# Altium integrated library National Semiconductor LDO.IntLib: 2675 symbols (part 55 of 65)
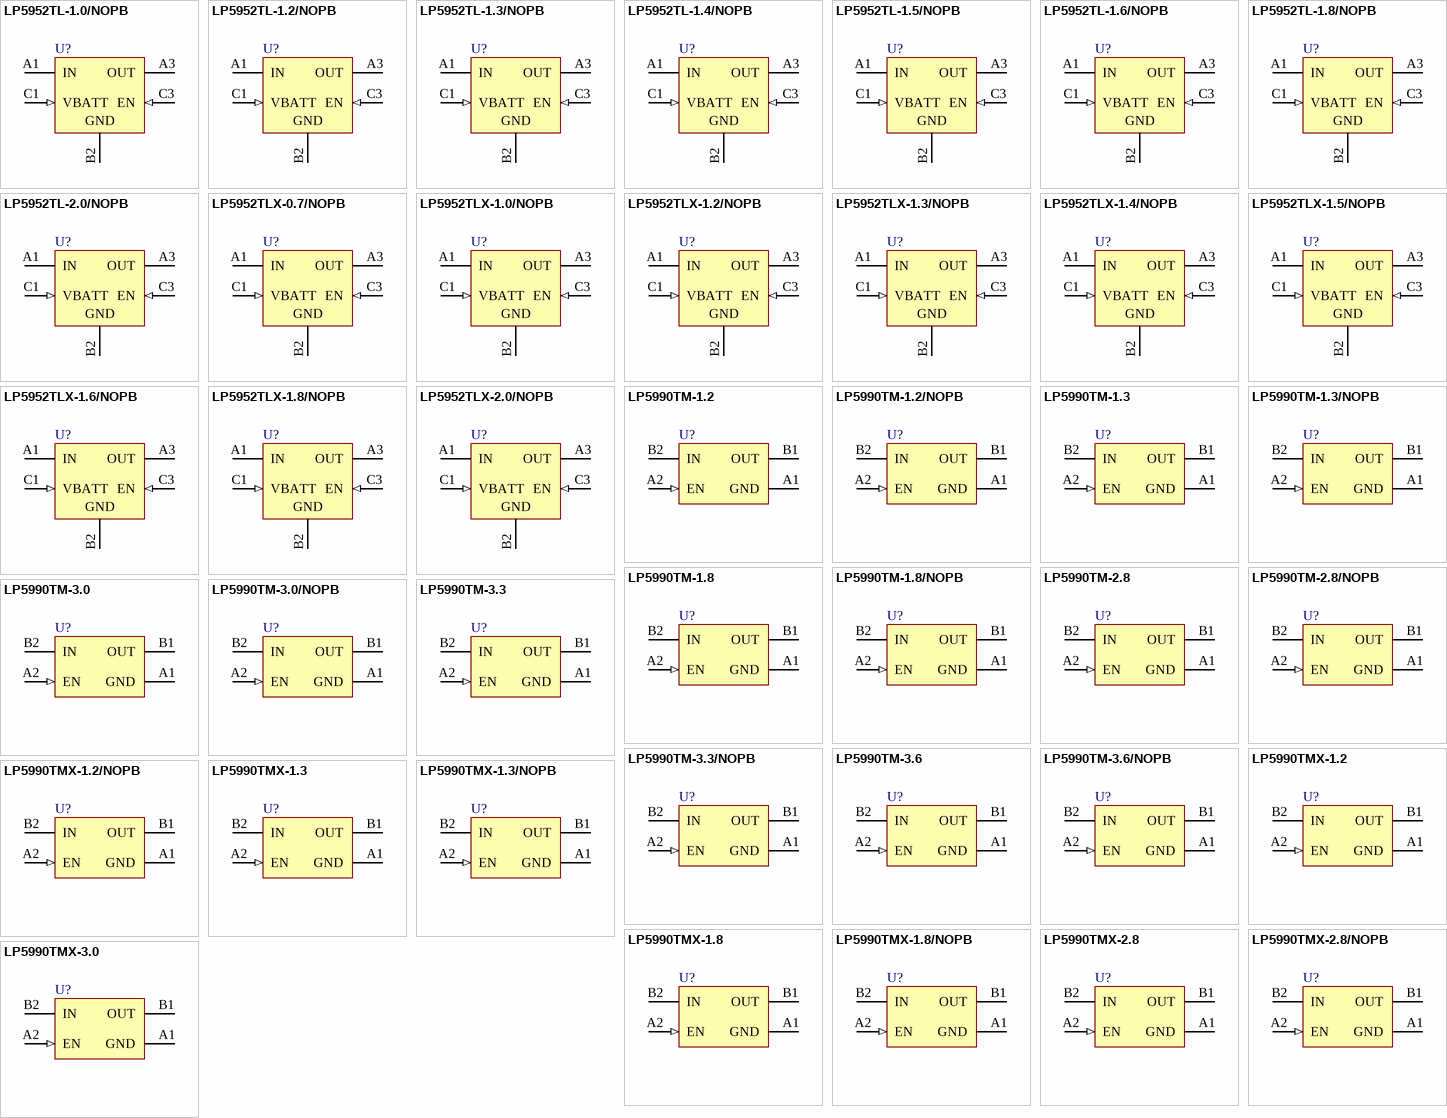
[diagram p121: symbols LP5952TL-1.0/NOPB to LP5990TMX-3.0]

## LP5990TM-2.8
designator U?
Micropower 200mA Low Dropout Voltage Regulator, 4-pin Micro SMD; PartNumber: LP5990TM-2.8; Manufacturer: National Semiconductor; PackageTopMarking: X*I; PowerWise: N; CompType: LDO IC; High-Reliability: Y; DatasheetVersion: Dec-2007; PackageVersion: revA, 2007; PackageReference: TMD04CEA; PackageDescription: Thin Micro SMD, 4 Bump, 0.4mm Pitch; RoHS: Y; PinCount: 4; ComponentLink1Description: Manufacturer URL; ComponentLink1URL: http://www.national.com/; ComponentLink2Description: LP5990 Datasheet; ComponentLink2URL: http://www.national.com/ds/LP/LP5990.pdf; ComponentLink3Description: LP5990 Web Page; ComponentLink3URL: http://www.national.com/mpf/LP/LP5990.html; ComponentLink4Description: TMD04CEA Package Page; ComponentLink4URL: http://www.national.com/packaging/folders/tmd04cea.html
footprint TMD04CEA (Micro SMD, 4-Leads, Body 0.92x0.87mm, Pitch 0.4mm, NSC Recommended)
pins: A1 GND (power), A2 EN (in), B1 OUT (power), B2 IN (power)

## LP5990TM-2.8/NOPB
designator U?
Micropower 200mA Low Dropout Voltage Regulator, 4-pin Micro SMD, Pb-Free; PartNumber: LP5990TM-2.8/NOPB; Manufacturer: National Semiconductor; PackageTopMarking: X*I; PowerWise: N; CompType: LDO IC; High-Reliability: Y; DatasheetVersion: Dec-2007; PackageVersion: revA, 2007; PackageReference: TMD04CEA; PackageDescription: Thin Micro SMD, 4 Bump, 0.4mm Pitch; RoHS: Y; PinCount: 4; ComponentLink1Description: Manufacturer URL; ComponentLink1URL: http://www.national.com/; ComponentLink2Description: LP5990 Datasheet; ComponentLink2URL: http://www.national.com/ds/LP/LP5990.pdf; ComponentLink3Description: LP5990 Web Page; ComponentLink3URL: http://www.national.com/pf/LP/LP5990.html; ComponentLink4Description: TMD04CEA Package Page; ComponentLink4URL: http://www.national.com/packaging/folders/tmd04cea.html
footprint TMD04CEA (Micro SMD, 4-Leads, Body 0.92x0.87mm, Pitch 0.4mm, NSC Recommended)
pins: A1 GND (power), A2 EN (in), B1 OUT (power), B2 IN (power)

## LP5990TM-3.0
designator U?
Micropower 200mA Low Dropout Voltage Regulator, 4-pin Micro SMD; PartNumber: LP5990TM-3.0; Manufacturer: National Semiconductor; PackageTopMarking: X*I; PowerWise: N; CompType: LDO IC; High-Reliability: Y; DatasheetVersion: Dec-2007; PackageVersion: revA, 2007; PackageReference: TMD04CEA; PackageDescription: Thin Micro SMD, 4 Bump, 0.4mm Pitch; RoHS: Y; PinCount: 4; ComponentLink1Description: Manufacturer URL; ComponentLink1URL: http://www.national.com/; ComponentLink2Description: LP5990 Datasheet; ComponentLink2URL: http://www.national.com/ds/LP/LP5990.pdf; ComponentLink3Description: LP5990 Web Page; ComponentLink3URL: http://www.national.com/mpf/LP/LP5990.html; ComponentLink4Description: TMD04CEA Package Page; ComponentLink4URL: http://www.national.com/packaging/folders/tmd04cea.html
footprint TMD04CEA (Micro SMD, 4-Leads, Body 0.92x0.87mm, Pitch 0.4mm, NSC Recommended)
pins: A1 GND (power), A2 EN (in), B1 OUT (power), B2 IN (power)

## LP5990TM-3.0/NOPB
designator U?
Micropower 200mA Low Dropout Voltage Regulator, 4-pin Micro SMD, Pb-Free; PartNumber: LP5990TM-3.0/NOPB; Manufacturer: National Semiconductor; PackageTopMarking: X*I; PowerWise: N; CompType: LDO IC; High-Reliability: Y; DatasheetVersion: Dec-2007; PackageVersion: revA, 2007; PackageReference: TMD04CEA; PackageDescription: Thin Micro SMD, 4 Bump, 0.4mm Pitch; RoHS: Y; PinCount: 4; ComponentLink1Description: Manufacturer URL; ComponentLink1URL: http://www.national.com/; ComponentLink2Description: LP5990 Datasheet; ComponentLink2URL: http://www.national.com/ds/LP/LP5990.pdf; ComponentLink3Description: LP5990 Web Page; ComponentLink3URL: http://www.national.com/pf/LP/LP5990.html; ComponentLink4Description: TMD04CEA Package Page; ComponentLink4URL: http://www.national.com/packaging/folders/tmd04cea.html
footprint TMD04CEA (Micro SMD, 4-Leads, Body 0.92x0.87mm, Pitch 0.4mm, NSC Recommended)
pins: A1 GND (power), A2 EN (in), B1 OUT (power), B2 IN (power)

## LP5990TM-3.3
designator U?
Micropower 200mA Low Dropout Voltage Regulator, 4-pin Micro SMD; PartNumber: LP5990TM-3.3; Manufacturer: National Semiconductor; PackageTopMarking: X*I; PowerWise: N; CompType: LDO IC; High-Reliability: Y; DatasheetVersion: Dec-2007; PackageVersion: revA, 2007; PackageReference: TMD04CEA; PackageDescription: Thin Micro SMD, 4 Bump, 0.4mm Pitch; RoHS: Y; PinCount: 4; ComponentLink1Description: Manufacturer URL; ComponentLink1URL: http://www.national.com/; ComponentLink2Description: LP5990 Datasheet; ComponentLink2URL: http://www.national.com/ds/LP/LP5990.pdf; ComponentLink3Description: LP5990 Web Page; ComponentLink3URL: http://www.national.com/mpf/LP/LP5990.html; ComponentLink4Description: TMD04CEA Package Page; ComponentLink4URL: http://www.national.com/packaging/folders/tmd04cea.html
footprint TMD04CEA (Micro SMD, 4-Leads, Body 0.92x0.87mm, Pitch 0.4mm, NSC Recommended)
pins: A1 GND (power), A2 EN (in), B1 OUT (power), B2 IN (power)

## LP5990TM-3.3/NOPB
designator U?
Micropower 200mA Low Dropout Voltage Regulator, 4-pin Micro SMD, Pb-Free; PartNumber: LP5990TM-3.3/NOPB; Manufacturer: National Semiconductor; PackageTopMarking: X*I; PowerWise: N; CompType: LDO IC; High-Reliability: Y; DatasheetVersion: Dec-2007; PackageVersion: revA, 2007; PackageReference: TMD04CEA; PackageDescription: Thin Micro SMD, 4 Bump, 0.4mm Pitch; RoHS: Y; PinCount: 4; ComponentLink1Description: Manufacturer URL; ComponentLink1URL: http://www.national.com/; ComponentLink2Description: LP5990 Datasheet; ComponentLink2URL: http://www.national.com/ds/LP/LP5990.pdf; ComponentLink3Description: LP5990 Web Page; ComponentLink3URL: http://www.national.com/pf/LP/LP5990.html; ComponentLink4Description: TMD04CEA Package Page; ComponentLink4URL: http://www.national.com/packaging/folders/tmd04cea.html
footprint TMD04CEA (Micro SMD, 4-Leads, Body 0.92x0.87mm, Pitch 0.4mm, NSC Recommended)
pins: A1 GND (power), A2 EN (in), B1 OUT (power), B2 IN (power)

## LP5990TM-3.6
designator U?
Micropower 200mA Low Dropout Voltage Regulator, 4-pin Micro SMD; PartNumber: LP5990TM-3.6; Manufacturer: National Semiconductor; PackageTopMarking: X*I; PowerWise: N; CompType: LDO IC; High-Reliability: Y; DatasheetVersion: Dec-2007; PackageVersion: revA, 2007; PackageReference: TMD04CEA; PackageDescription: Thin Micro SMD, 4 Bump, 0.4mm Pitch; RoHS: Y; PinCount: 4; ComponentLink1Description: Manufacturer URL; ComponentLink1URL: http://www.national.com/; ComponentLink2Description: LP5990 Datasheet; ComponentLink2URL: http://www.national.com/ds/LP/LP5990.pdf; ComponentLink3Description: LP5990 Web Page; ComponentLink3URL: http://www.national.com/mpf/LP/LP5990.html; ComponentLink4Description: TMD04CEA Package Page; ComponentLink4URL: http://www.national.com/packaging/folders/tmd04cea.html
footprint TMD04CEA (Micro SMD, 4-Leads, Body 0.92x0.87mm, Pitch 0.4mm, NSC Recommended)
pins: A1 GND (power), A2 EN (in), B1 OUT (power), B2 IN (power)

## LP5990TM-3.6/NOPB
designator U?
Micropower 200mA Low Dropout Voltage Regulator, 4-pin Micro SMD, Pb-Free; PartNumber: LP5990TM-3.6/NOPB; Manufacturer: National Semiconductor; PackageTopMarking: X*I; PowerWise: N; CompType: LDO IC; High-Reliability: Y; DatasheetVersion: Dec-2007; PackageVersion: revA, 2007; PackageReference: TMD04CEA; PackageDescription: Thin Micro SMD, 4 Bump, 0.4mm Pitch; RoHS: Y; PinCount: 4; ComponentLink1Description: Manufacturer URL; ComponentLink1URL: http://www.national.com/; ComponentLink2Description: LP5990 Datasheet; ComponentLink2URL: http://www.national.com/ds/LP/LP5990.pdf; ComponentLink3Description: LP5990 Web Page; ComponentLink3URL: http://www.national.com/pf/LP/LP5990.html; ComponentLink4Description: TMD04CEA Package Page; ComponentLink4URL: http://www.national.com/packaging/folders/tmd04cea.html
footprint TMD04CEA (Micro SMD, 4-Leads, Body 0.92x0.87mm, Pitch 0.4mm, NSC Recommended)
pins: A1 GND (power), A2 EN (in), B1 OUT (power), B2 IN (power)

## LP5990TMX-1.2
designator U?
Micropower 200mA Low Dropout Voltage Regulator, 4-pin Micro SMD; PartNumber: LP5990TMX-1.2; Manufacturer: National Semiconductor; PackageTopMarking: X*I; PowerWise: N; CompType: LDO IC; High-Reliability: Y; DatasheetVersion: Dec-2007; PackageVersion: revA, 2007; PackageReference: TMD04CEA; PackageDescription: Thin Micro SMD, 4 Bump, 0.4mm Pitch; RoHS: Y; PinCount: 4; ComponentLink1Description: Manufacturer URL; ComponentLink1URL: http://www.national.com/; ComponentLink2Description: LP5990 Datasheet; ComponentLink2URL: http://www.national.com/ds/LP/LP5990.pdf; ComponentLink3Description: LP5990 Web Page; ComponentLink3URL: http://www.national.com/mpf/LP/LP5990.html; ComponentLink4Description: TMD04CEA Package Page; ComponentLink4URL: http://www.national.com/packaging/folders/tmd04cea.html
footprint TMD04CEA (Micro SMD, 4-Leads, Body 0.92x0.87mm, Pitch 0.4mm, NSC Recommended)
pins: A1 GND (power), A2 EN (in), B1 OUT (power), B2 IN (power)

## LP5990TMX-1.2/NOPB
designator U?
Micropower 200mA Low Dropout Voltage Regulator, 4-pin Micro SMD, Pb-Free; PartNumber: LP5990TMX-1.2/NOPB; Manufacturer: National Semiconductor; PackageTopMarking: X*I; PowerWise: N; CompType: LDO IC; High-Reliability: Y; DatasheetVersion: Dec-2007; PackageVersion: revA, 2007; PackageReference: TMD04CEA; PackageDescription: Thin Micro SMD, 4 Bump, 0.4mm Pitch; RoHS: Y; PinCount: 4; ComponentLink1Description: Manufacturer URL; ComponentLink1URL: http://www.national.com/; ComponentLink2Description: LP5990 Datasheet; ComponentLink2URL: http://www.national.com/ds/LP/LP5990.pdf; ComponentLink3Description: LP5990 Web Page; ComponentLink3URL: http://www.national.com/pf/LP/LP5990.html; ComponentLink4Description: TMD04CEA Package Page; ComponentLink4URL: http://www.national.com/packaging/folders/tmd04cea.html
footprint TMD04CEA (Micro SMD, 4-Leads, Body 0.92x0.87mm, Pitch 0.4mm, NSC Recommended)
pins: A1 GND (power), A2 EN (in), B1 OUT (power), B2 IN (power)

## LP5990TMX-1.3
designator U?
Micropower 200mA Low Dropout Voltage Regulator, 4-pin Micro SMD; PartNumber: LP5990TMX-1.3; Manufacturer: National Semiconductor; PackageTopMarking: X*I; PowerWise: N; CompType: LDO IC; High-Reliability: Y; DatasheetVersion: Dec-2007; PackageVersion: revA, 2007; PackageReference: TMD04CEA; PackageDescription: Thin Micro SMD, 4 Bump, 0.4mm Pitch; RoHS: Y; PinCount: 4; ComponentLink1Description: Manufacturer URL; ComponentLink1URL: http://www.national.com/; ComponentLink2Description: LP5990 Datasheet; ComponentLink2URL: http://www.national.com/ds/LP/LP5990.pdf; ComponentLink3Description: LP5990 Web Page; ComponentLink3URL: http://www.national.com/mpf/LP/LP5990.html; ComponentLink4Description: TMD04CEA Package Page; ComponentLink4URL: http://www.national.com/packaging/folders/tmd04cea.html
footprint TMD04CEA (Micro SMD, 4-Leads, Body 0.92x0.87mm, Pitch 0.4mm, NSC Recommended)
pins: A1 GND (power), A2 EN (in), B1 OUT (power), B2 IN (power)

## LP5990TMX-1.3/NOPB
designator U?
Micropower 200mA Low Dropout Voltage Regulator, 4-pin Micro SMD, Pb-Free; PartNumber: LP5990TMX-1.3/NOPB; Manufacturer: National Semiconductor; PackageTopMarking: X*I; PowerWise: N; CompType: LDO IC; High-Reliability: Y; DatasheetVersion: Dec-2007; PackageVersion: revA, 2007; PackageReference: TMD04CEA; PackageDescription: Thin Micro SMD, 4 Bump, 0.4mm Pitch; RoHS: Y; PinCount: 4; ComponentLink1Description: Manufacturer URL; ComponentLink1URL: http://www.national.com/; ComponentLink2Description: LP5990 Datasheet; ComponentLink2URL: http://www.national.com/ds/LP/LP5990.pdf; ComponentLink3Description: LP5990 Web Page; ComponentLink3URL: http://www.national.com/pf/LP/LP5990.html; ComponentLink4Description: TMD04CEA Package Page; ComponentLink4URL: http://www.national.com/packaging/folders/tmd04cea.html
footprint TMD04CEA (Micro SMD, 4-Leads, Body 0.92x0.87mm, Pitch 0.4mm, NSC Recommended)
pins: A1 GND (power), A2 EN (in), B1 OUT (power), B2 IN (power)

## LP5990TMX-1.8
designator U?
Micropower 200mA Low Dropout Voltage Regulator, 4-pin Micro SMD; PartNumber: LP5990TMX-1.8; Manufacturer: National Semiconductor; PackageTopMarking: X*I; PowerWise: N; CompType: LDO IC; High-Reliability: Y; DatasheetVersion: Dec-2007; PackageVersion: revA, 2007; PackageReference: TMD04CEA; PackageDescription: Thin Micro SMD, 4 Bump, 0.4mm Pitch; RoHS: Y; PinCount: 4; ComponentLink1Description: Manufacturer URL; ComponentLink1URL: http://www.national.com/; ComponentLink2Description: LP5990 Datasheet; ComponentLink2URL: http://www.national.com/ds/LP/LP5990.pdf; ComponentLink3Description: LP5990 Web Page; ComponentLink3URL: http://www.national.com/mpf/LP/LP5990.html; ComponentLink4Description: TMD04CEA Package Page; ComponentLink4URL: http://www.national.com/packaging/folders/tmd04cea.html
footprint TMD04CEA (Micro SMD, 4-Leads, Body 0.92x0.87mm, Pitch 0.4mm, NSC Recommended)
pins: A1 GND (power), A2 EN (in), B1 OUT (power), B2 IN (power)

## LP5990TMX-1.8/NOPB
designator U?
Micropower 200mA Low Dropout Voltage Regulator, 4-pin Micro SMD, Pb-Free; PartNumber: LP5990TMX-1.8/NOPB; Manufacturer: National Semiconductor; PackageTopMarking: X*I; PowerWise: N; CompType: LDO IC; High-Reliability: Y; DatasheetVersion: Dec-2007; PackageVersion: revA, 2007; PackageReference: TMD04CEA; PackageDescription: Thin Micro SMD, 4 Bump, 0.4mm Pitch; RoHS: Y; PinCount: 4; ComponentLink1Description: Manufacturer URL; ComponentLink1URL: http://www.national.com/; ComponentLink2Description: LP5990 Datasheet; ComponentLink2URL: http://www.national.com/ds/LP/LP5990.pdf; ComponentLink3Description: LP5990 Web Page; ComponentLink3URL: http://www.national.com/pf/LP/LP5990.html; ComponentLink4Description: TMD04CEA Package Page; ComponentLink4URL: http://www.national.com/packaging/folders/tmd04cea.html
footprint TMD04CEA (Micro SMD, 4-Leads, Body 0.92x0.87mm, Pitch 0.4mm, NSC Recommended)
pins: A1 GND (power), A2 EN (in), B1 OUT (power), B2 IN (power)

## LP5990TMX-2.8
designator U?
Micropower 200mA Low Dropout Voltage Regulator, 4-pin Micro SMD; PartNumber: LP5990TMX-2.8; Manufacturer: National Semiconductor; PackageTopMarking: X*I; PowerWise: N; CompType: LDO IC; High-Reliability: Y; DatasheetVersion: Dec-2007; PackageVersion: revA, 2007; PackageReference: TMD04CEA; PackageDescription: Thin Micro SMD, 4 Bump, 0.4mm Pitch; RoHS: Y; PinCount: 4; ComponentLink1Description: Manufacturer URL; ComponentLink1URL: http://www.national.com/; ComponentLink2Description: LP5990 Datasheet; ComponentLink2URL: http://www.national.com/ds/LP/LP5990.pdf; ComponentLink3Description: LP5990 Web Page; ComponentLink3URL: http://www.national.com/mpf/LP/LP5990.html; ComponentLink4Description: TMD04CEA Package Page; ComponentLink4URL: http://www.national.com/packaging/folders/tmd04cea.html
footprint TMD04CEA (Micro SMD, 4-Leads, Body 0.92x0.87mm, Pitch 0.4mm, NSC Recommended)
pins: A1 GND (power), A2 EN (in), B1 OUT (power), B2 IN (power)

## LP5990TMX-2.8/NOPB
designator U?
Micropower 200mA Low Dropout Voltage Regulator, 4-pin Micro SMD, Pb-Free; PartNumber: LP5990TMX-2.8/NOPB; Manufacturer: National Semiconductor; PackageTopMarking: X*I; PowerWise: N; CompType: LDO IC; High-Reliability: Y; DatasheetVersion: Dec-2007; PackageVersion: revA, 2007; PackageReference: TMD04CEA; PackageDescription: Thin Micro SMD, 4 Bump, 0.4mm Pitch; RoHS: Y; PinCount: 4; ComponentLink1Description: Manufacturer URL; ComponentLink1URL: http://www.national.com/; ComponentLink2Description: LP5990 Datasheet; ComponentLink2URL: http://www.national.com/ds/LP/LP5990.pdf; ComponentLink3Description: LP5990 Web Page; ComponentLink3URL: http://www.national.com/pf/LP/LP5990.html; ComponentLink4Description: TMD04CEA Package Page; ComponentLink4URL: http://www.national.com/packaging/folders/tmd04cea.html
footprint TMD04CEA (Micro SMD, 4-Leads, Body 0.92x0.87mm, Pitch 0.4mm, NSC Recommended)
pins: A1 GND (power), A2 EN (in), B1 OUT (power), B2 IN (power)

## LP5990TMX-3.0
designator U?
Micropower 200mA Low Dropout Voltage Regulator, 4-pin Micro SMD; PartNumber: LP5990TMX-3.0; Manufacturer: National Semiconductor; PackageTopMarking: X*I; PowerWise: N; CompType: LDO IC; High-Reliability: Y; DatasheetVersion: Dec-2007; PackageVersion: revA, 2007; PackageReference: TMD04CEA; PackageDescription: Thin Micro SMD, 4 Bump, 0.4mm Pitch; RoHS: Y; PinCount: 4; ComponentLink1Description: Manufacturer URL; ComponentLink1URL: http://www.national.com/; ComponentLink2Description: LP5990 Datasheet; ComponentLink2URL: http://www.national.com/ds/LP/LP5990.pdf; ComponentLink3Description: LP5990 Web Page; ComponentLink3URL: http://www.national.com/mpf/LP/LP5990.html; ComponentLink4Description: TMD04CEA Package Page; ComponentLink4URL: http://www.national.com/packaging/folders/tmd04cea.html
footprint TMD04CEA (Micro SMD, 4-Leads, Body 0.92x0.87mm, Pitch 0.4mm, NSC Recommended)
pins: A1 GND (power), A2 EN (in), B1 OUT (power), B2 IN (power)

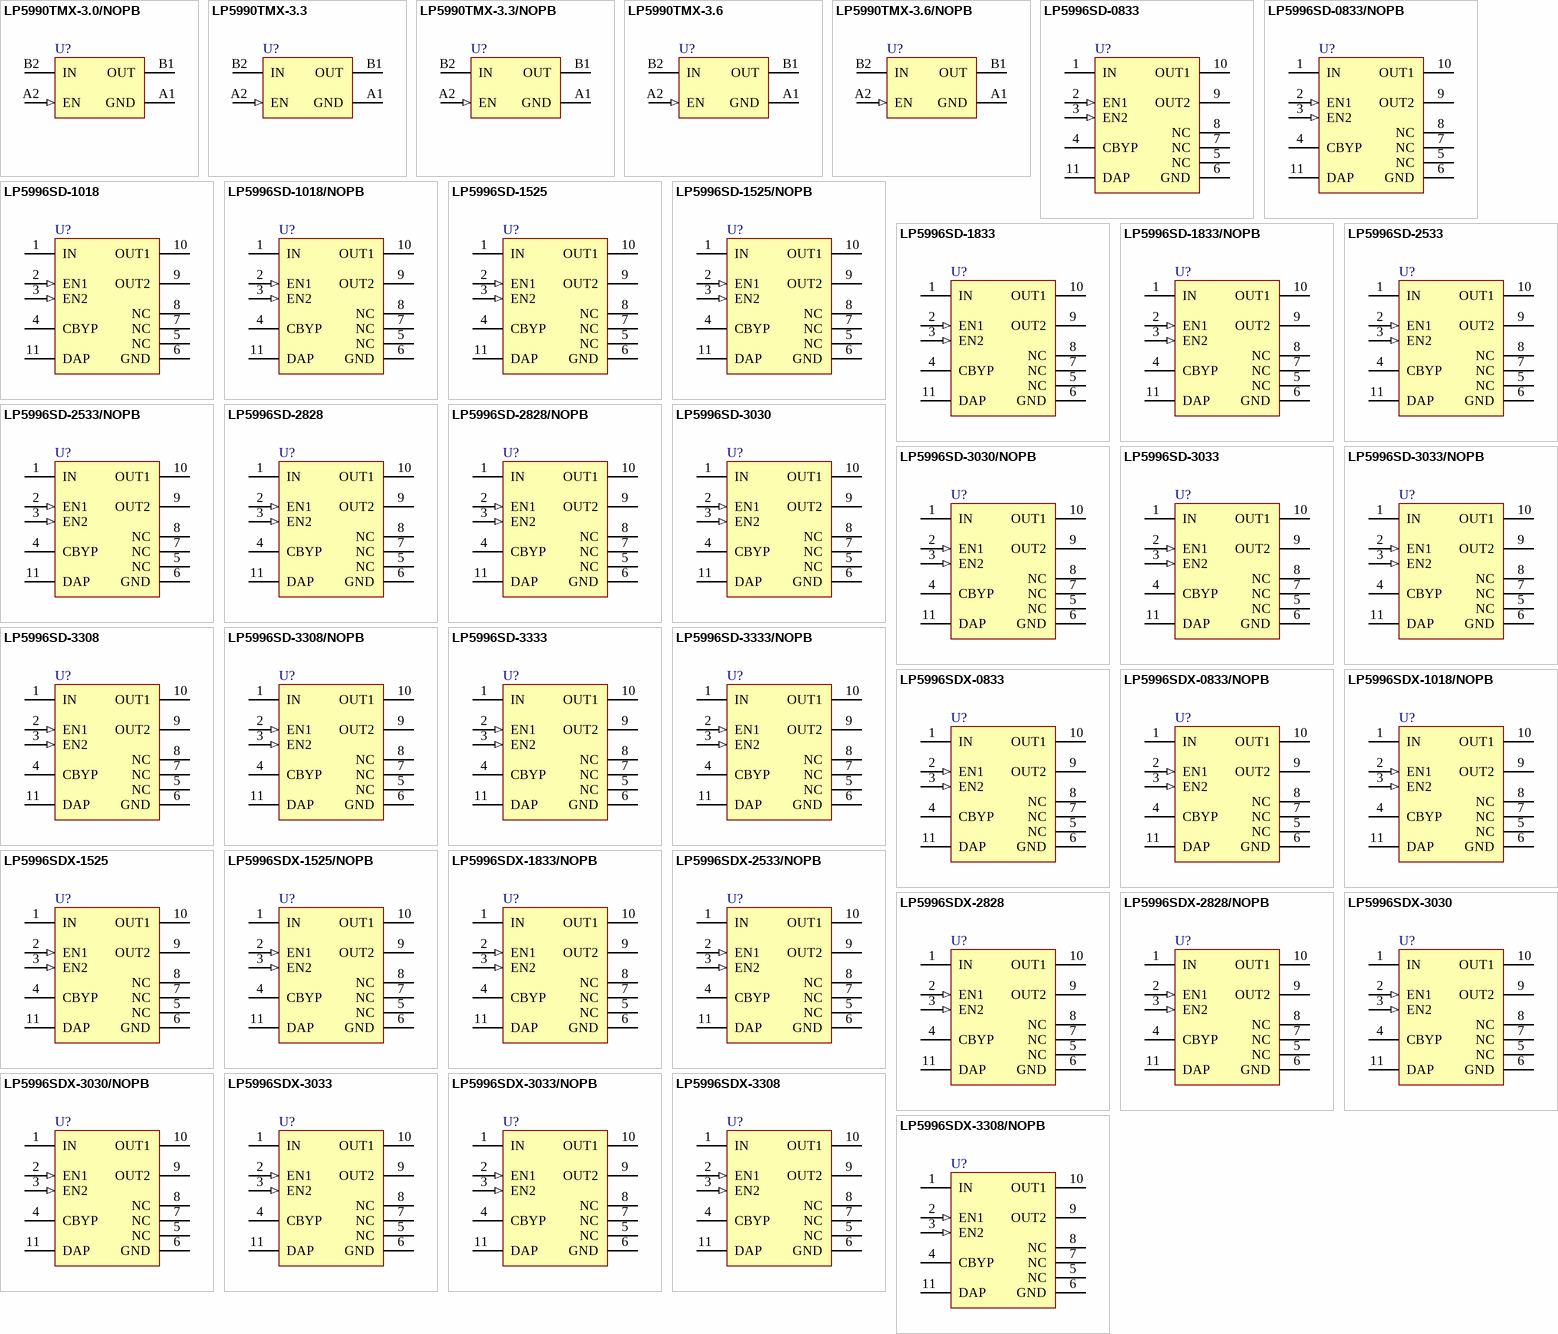
[diagram p57: symbols LP5990TMX-3.0/NOPB to LP5996SDX-3308/NOPB]

## LP5990TMX-3.0/NOPB
designator U?
Micropower 200mA Low Dropout Voltage Regulator, 4-pin Micro SMD, Pb-Free; PartNumber: LP5990TMX-3.0/NOPB; Manufacturer: National Semiconductor; PackageTopMarking: X*I; PowerWise: N; CompType: LDO IC; High-Reliability: Y; DatasheetVersion: Dec-2007; PackageVersion: revA, 2007; PackageReference: TMD04CEA; PackageDescription: Thin Micro SMD, 4 Bump, 0.4mm Pitch; RoHS: Y; PinCount: 4; ComponentLink1Description: Manufacturer URL; ComponentLink1URL: http://www.national.com/; ComponentLink2Description: LP5990 Datasheet; ComponentLink2URL: http://www.national.com/ds/LP/LP5990.pdf; ComponentLink3Description: LP5990 Web Page; ComponentLink3URL: http://www.national.com/pf/LP/LP5990.html; ComponentLink4Description: TMD04CEA Package Page; ComponentLink4URL: http://www.national.com/packaging/folders/tmd04cea.html
footprint TMD04CEA (Micro SMD, 4-Leads, Body 0.92x0.87mm, Pitch 0.4mm, NSC Recommended)
pins: A1 GND (power), A2 EN (in), B1 OUT (power), B2 IN (power)

## LP5990TMX-3.3
designator U?
Micropower 200mA Low Dropout Voltage Regulator, 4-pin Micro SMD; PartNumber: LP5990TMX-3.3; Manufacturer: National Semiconductor; PackageTopMarking: X*I; PowerWise: N; CompType: LDO IC; High-Reliability: Y; DatasheetVersion: Dec-2007; PackageVersion: revA, 2007; PackageReference: TMD04CEA; PackageDescription: Thin Micro SMD, 4 Bump, 0.4mm Pitch; RoHS: Y; PinCount: 4; ComponentLink1Description: Manufacturer URL; ComponentLink1URL: http://www.national.com/; ComponentLink2Description: LP5990 Datasheet; ComponentLink2URL: http://www.national.com/ds/LP/LP5990.pdf; ComponentLink3Description: LP5990 Web Page; ComponentLink3URL: http://www.national.com/mpf/LP/LP5990.html; ComponentLink4Description: TMD04CEA Package Page; ComponentLink4URL: http://www.national.com/packaging/folders/tmd04cea.html
footprint TMD04CEA (Micro SMD, 4-Leads, Body 0.92x0.87mm, Pitch 0.4mm, NSC Recommended)
pins: A1 GND (power), A2 EN (in), B1 OUT (power), B2 IN (power)

## LP5990TMX-3.3/NOPB
designator U?
Micropower 200mA Low Dropout Voltage Regulator, 4-pin Micro SMD, Pb-Free; PartNumber: LP5990TMX-3.3/NOPB; Manufacturer: National Semiconductor; PackageTopMarking: X*I; PowerWise: N; CompType: LDO IC; High-Reliability: Y; DatasheetVersion: Dec-2007; PackageVersion: revA, 2007; PackageReference: TMD04CEA; PackageDescription: Thin Micro SMD, 4 Bump, 0.4mm Pitch; RoHS: Y; PinCount: 4; ComponentLink1Description: Manufacturer URL; ComponentLink1URL: http://www.national.com/; ComponentLink2Description: LP5990 Datasheet; ComponentLink2URL: http://www.national.com/ds/LP/LP5990.pdf; ComponentLink3Description: LP5990 Web Page; ComponentLink3URL: http://www.national.com/pf/LP/LP5990.html; ComponentLink4Description: TMD04CEA Package Page; ComponentLink4URL: http://www.national.com/packaging/folders/tmd04cea.html
footprint TMD04CEA (Micro SMD, 4-Leads, Body 0.92x0.87mm, Pitch 0.4mm, NSC Recommended)
pins: A1 GND (power), A2 EN (in), B1 OUT (power), B2 IN (power)

## LP5990TMX-3.6
designator U?
Micropower 200mA Low Dropout Voltage Regulator, 4-pin Micro SMD; PartNumber: LP5990TMX-3.6; Manufacturer: National Semiconductor; PackageTopMarking: X*I; PowerWise: N; CompType: LDO IC; High-Reliability: Y; DatasheetVersion: Dec-2007; PackageVersion: revA, 2007; PackageReference: TMD04CEA; PackageDescription: Thin Micro SMD, 4 Bump, 0.4mm Pitch; RoHS: Y; PinCount: 4; ComponentLink1Description: Manufacturer URL; ComponentLink1URL: http://www.national.com/; ComponentLink2Description: LP5990 Datasheet; ComponentLink2URL: http://www.national.com/ds/LP/LP5990.pdf; ComponentLink3Description: LP5990 Web Page; ComponentLink3URL: http://www.national.com/mpf/LP/LP5990.html; ComponentLink4Description: TMD04CEA Package Page; ComponentLink4URL: http://www.national.com/packaging/folders/tmd04cea.html
footprint TMD04CEA (Micro SMD, 4-Leads, Body 0.92x0.87mm, Pitch 0.4mm, NSC Recommended)
pins: A1 GND (power), A2 EN (in), B1 OUT (power), B2 IN (power)

## LP5990TMX-3.6/NOPB
designator U?
Micropower 200mA Low Dropout Voltage Regulator, 4-pin Micro SMD, Pb-Free; PartNumber: LP5990TMX-3.6/NOPB; Manufacturer: National Semiconductor; PackageTopMarking: X*I; PowerWise: N; CompType: LDO IC; High-Reliability: Y; DatasheetVersion: Dec-2007; PackageVersion: revA, 2007; PackageReference: TMD04CEA; PackageDescription: Thin Micro SMD, 4 Bump, 0.4mm Pitch; RoHS: Y; PinCount: 4; ComponentLink1Description: Manufacturer URL; ComponentLink1URL: http://www.national.com/; ComponentLink2Description: LP5990 Datasheet; ComponentLink2URL: http://www.national.com/ds/LP/LP5990.pdf; ComponentLink3Description: LP5990 Web Page; ComponentLink3URL: http://www.national.com/pf/LP/LP5990.html; ComponentLink4Description: TMD04CEA Package Page; ComponentLink4URL: http://www.national.com/packaging/folders/tmd04cea.html
footprint TMD04CEA (Micro SMD, 4-Leads, Body 0.92x0.87mm, Pitch 0.4mm, NSC Recommended)
pins: A1 GND (power), A2 EN (in), B1 OUT (power), B2 IN (power)

## LP5996SD-0833
designator U?
Dual Linear Regulator with 300mA and 150mA Outputs, 10-pin LLP; PartNumber: LP5996SD-0833; Manufacturer: National Semiconductor; PackageTopMarking: ZXYTT*L176B; PowerWise: N; CompType: LDO IC; High-Reliability: Y; DatasheetVersion: Jan-2008; PackageVersion: revA, Oct-2003; PackageReference: SDA10A; PackageDescription: LLP, Plastic, Dual, 3 x 3 x 0.8mm Body, 10 Lead, 0.5mm Pitch, No Pullback; RoHS: N; PinCount: 10; ComponentLink1Description: Manufacturer URL; ComponentLink1URL: http://www.national.com/; ComponentLink2Description: LP5996 Datasheet; ComponentLink2URL: http://www.national.com/ds/LP/LP5996.pdf; ComponentLink3Description: LP5996 Web Page; ComponentLink3URL: http://www.national.com/pf/LP/LP5996.html; ComponentLink4Description: SDA10A Package Page; ComponentLink4URL: http://www.national.com/packaging/folders/sda10a.html
footprint SDA10A (SON, 10-Leads, Body 3x3 mm, Pitch 0.5mm, NSC Recommended)
pins: 1 IN (power), 2 EN1 (in), 3 EN2 (in), 4 CBYP, 5 NC, 6 GND (power), 7 NC, 8 NC, 9 OUT2 (power), 10 OUT1 (power), 11 DAP (power)

## LP5996SD-0833/NOPB
designator U?
Dual Linear Regulator with 300mA and 150mA Outputs, 10-pin LLP, Pb-Free; PartNumber: LP5996SD-0833/NOPB; Manufacturer: National Semiconductor; PackageTopMarking: ZXYTT*L176B; PowerWise: N; CompType: LDO IC; High-Reliability: Y; DatasheetVersion: Jan-2008; PackageVersion: revA, Oct-2003; PackageReference: SDA10A; PackageDescription: LLP, Plastic, Dual, 3 x 3 x 0.8mm Body, 10 Lead, 0.5mm Pitch, No Pullback; RoHS: Y; PinCount: 10; ComponentLink1Description: Manufacturer URL; ComponentLink1URL: http://www.national.com/; ComponentLink2Description: LP5996 Datasheet; ComponentLink2URL: http://www.national.com/ds/LP/LP5996.pdf; ComponentLink3Description: LP5996 Web Page; ComponentLink3URL: http://www.national.com/pf/LP/LP5996.html; ComponentLink4Description: SDA10A Package Page; ComponentLink4URL: http://www.national.com/packaging/folders/sda10a.html
footprint SDA10A (SON, 10-Leads, Body 3x3 mm, Pitch 0.5mm, NSC Recommended)
pins: 1 IN (power), 2 EN1 (in), 3 EN2 (in), 4 CBYP, 5 NC, 6 GND (power), 7 NC, 8 NC, 9 OUT2 (power), 10 OUT1 (power), 11 DAP (power)

## LP5996SD-1018
designator U?
Dual Linear Regulator with 300mA and 150mA Outputs, 10-pin LLP; PartNumber: LP5996SD-1018; Manufacturer: National Semiconductor; PackageTopMarking: ZXYTT*L224B; PowerWise: N; CompType: LDO IC; High-Reliability: Y; DatasheetVersion: Jan-2008; PackageVersion: revA, Oct-2003; PackageReference: SDA10A; PackageDescription: LLP, Plastic, Dual, 3 x 3 x 0.8mm Body, 10 Lead, 0.5mm Pitch, No Pullback; RoHS: Y; PinCount: 10; ComponentLink1Description: Manufacturer URL; ComponentLink1URL: http://www.national.com/; ComponentLink2Description: LP5996 Datasheet; ComponentLink2URL: http://www.national.com/ds/LP/LP5996.pdf; ComponentLink3Description: LP5996 Web Page; ComponentLink3URL: http://www.national.com/pf/LP/LP5996.html; ComponentLink4Description: SDA10A Package Page; ComponentLink4URL: http://www.national.com/packaging/folders/sda10a.html
footprint SDA10A (SON, 10-Leads, Body 3x3 mm, Pitch 0.5mm, NSC Recommended)
pins: 1 IN (power), 2 EN1 (in), 3 EN2 (in), 4 CBYP, 5 NC, 6 GND (power), 7 NC, 8 NC, 9 OUT2 (power), 10 OUT1 (power), 11 DAP (power)

## LP5996SD-1018/NOPB
designator U?
Dual Linear Regulator with 300mA and 150mA Outputs, 10-pin LLP, Pb-Free; PartNumber: LP5996SD-1018/NOPB; Manufacturer: National Semiconductor; PackageTopMarking: ZXYTT*L224B; PowerWise: N; CompType: LDO IC; High-Reliability: Y; DatasheetVersion: Jan-2008; PackageVersion: revA, Oct-2003; PackageReference: SDA10A; PackageDescription: LLP, Plastic, Dual, 3 x 3 x 0.8mm Body, 10 Lead, 0.5mm Pitch, No Pullback; RoHS: Y; PinCount: 10; ComponentLink1Description: Manufacturer URL; ComponentLink1URL: http://www.national.com/; ComponentLink2Description: LP5996 Datasheet; ComponentLink2URL: http://www.national.com/ds/LP/LP5996.pdf; ComponentLink3Description: LP5996 Web Page; ComponentLink3URL: http://www.national.com/pf/LP/LP5996.html; ComponentLink4Description: SDA10A Package Page; ComponentLink4URL: http://www.national.com/packaging/folders/sda10a.html
footprint SDA10A (SON, 10-Leads, Body 3x3 mm, Pitch 0.5mm, NSC Recommended)
pins: 1 IN (power), 2 EN1 (in), 3 EN2 (in), 4 CBYP, 5 NC, 6 GND (power), 7 NC, 8 NC, 9 OUT2 (power), 10 OUT1 (power), 11 DAP (power)

## LP5996SD-1525
designator U?
Dual Linear Regulator with 300mA and 150mA Outputs, 10-pin LLP; PartNumber: LP5996SD-1525; Manufacturer: National Semiconductor; PackageTopMarking: ZXYTT*L177B; PowerWise: N; CompType: LDO IC; High-Reliability: Y; DatasheetVersion: Jan-2008; PackageVersion: revA, Oct-2003; PackageReference: SDA10A; PackageDescription: LLP, Plastic, Dual, 3 x 3 x 0.8mm Body, 10 Lead, 0.5mm Pitch, No Pullback; RoHS: N; PinCount: 10; ComponentLink1Description: Manufacturer URL; ComponentLink1URL: http://www.national.com/; ComponentLink2Description: LP5996 Datasheet; ComponentLink2URL: http://www.national.com/ds/LP/LP5996.pdf; ComponentLink3Description: LP5996 Web Page; ComponentLink3URL: http://www.national.com/pf/LP/LP5996.html; ComponentLink4Description: SDA10A Package Page; ComponentLink4URL: http://www.national.com/packaging/folders/sda10a.html
footprint SDA10A (SON, 10-Leads, Body 3x3 mm, Pitch 0.5mm, NSC Recommended)
pins: 1 IN (power), 2 EN1 (in), 3 EN2 (in), 4 CBYP, 5 NC, 6 GND (power), 7 NC, 8 NC, 9 OUT2 (power), 10 OUT1 (power), 11 DAP (power)

## LP5996SD-1525/NOPB
designator U?
Dual Linear Regulator with 300mA and 150mA Outputs, 10-pin LLP, Pb-Free; PartNumber: LP5996SD-1525/NOPB; Manufacturer: National Semiconductor; PackageTopMarking: ZXYTT*L177B; PowerWise: N; CompType: LDO IC; High-Reliability: Y; DatasheetVersion: Jan-2008; PackageVersion: revA, Oct-2003; PackageReference: SDA10A; PackageDescription: LLP, Plastic, Dual, 3 x 3 x 0.8mm Body, 10 Lead, 0.5mm Pitch, No Pullback; RoHS: Y; PinCount: 10; ComponentLink1Description: Manufacturer URL; ComponentLink1URL: http://www.national.com/; ComponentLink2Description: LP5996 Datasheet; ComponentLink2URL: http://www.national.com/ds/LP/LP5996.pdf; ComponentLink3Description: LP5996 Web Page; ComponentLink3URL: http://www.national.com/pf/LP/LP5996.html; ComponentLink4Description: SDA10A Package Page; ComponentLink4URL: http://www.national.com/packaging/folders/sda10a.html
footprint SDA10A (SON, 10-Leads, Body 3x3 mm, Pitch 0.5mm, NSC Recommended)
pins: 1 IN (power), 2 EN1 (in), 3 EN2 (in), 4 CBYP, 5 NC, 6 GND (power), 7 NC, 8 NC, 9 OUT2 (power), 10 OUT1 (power), 11 DAP (power)

## LP5996SD-1833
designator U?
Dual Linear Regulator with 300mA and 150mA Outputs, 10-pin LLP; PartNumber: LP5996SD-1833; Manufacturer: National Semiconductor; PackageTopMarking: ZXYTT*L225B; PowerWise: N; CompType: LDO IC; High-Reliability: Y; DatasheetVersion: Jan-2008; PackageVersion: revA, Oct-2003; PackageReference: SDA10A; PackageDescription: LLP, Plastic, Dual, 3 x 3 x 0.8mm Body, 10 Lead, 0.5mm Pitch, No Pullback; RoHS: Y; PinCount: 10; ComponentLink1Description: Manufacturer URL; ComponentLink1URL: http://www.national.com/; ComponentLink2Description: LP5996 Datasheet; ComponentLink2URL: http://www.national.com/ds/LP/LP5996.pdf; ComponentLink3Description: LP5996 Web Page; ComponentLink3URL: http://www.national.com/pf/LP/LP5996.html; ComponentLink4Description: SDA10A Package Page; ComponentLink4URL: http://www.national.com/packaging/folders/sda10a.html
footprint SDA10A (SON, 10-Leads, Body 3x3 mm, Pitch 0.5mm, NSC Recommended)
pins: 1 IN (power), 2 EN1 (in), 3 EN2 (in), 4 CBYP, 5 NC, 6 GND (power), 7 NC, 8 NC, 9 OUT2 (power), 10 OUT1 (power), 11 DAP (power)

## LP5996SD-1833/NOPB
designator U?
Dual Linear Regulator with 300mA and 150mA Outputs, 10-pin LLP, Pb-Free; PartNumber: LP5996SD-1833/NOPB; Manufacturer: National Semiconductor; PackageTopMarking: ZXYTT*L225B; PowerWise: N; CompType: LDO IC; High-Reliability: Y; DatasheetVersion: Jan-2008; PackageVersion: revA, Oct-2003; PackageReference: SDA10A; PackageDescription: LLP, Plastic, Dual, 3 x 3 x 0.8mm Body, 10 Lead, 0.5mm Pitch, No Pullback; RoHS: Y; PinCount: 10; ComponentLink1Description: Manufacturer URL; ComponentLink1URL: http://www.national.com/; ComponentLink2Description: LP5996 Datasheet; ComponentLink2URL: http://www.national.com/ds/LP/LP5996.pdf; ComponentLink3Description: LP5996 Web Page; ComponentLink3URL: http://www.national.com/pf/LP/LP5996.html; ComponentLink4Description: SDA10A Package Page; ComponentLink4URL: http://www.national.com/packaging/folders/sda10a.html
footprint SDA10A (SON, 10-Leads, Body 3x3 mm, Pitch 0.5mm, NSC Recommended)
pins: 1 IN (power), 2 EN1 (in), 3 EN2 (in), 4 CBYP, 5 NC, 6 GND (power), 7 NC, 8 NC, 9 OUT2 (power), 10 OUT1 (power), 11 DAP (power)

## LP5996SD-2533
designator U?
Dual Linear Regulator with 300mA and 150mA Outputs, 10-pin LLP; PartNumber: LP5996SD-2533; Manufacturer: National Semiconductor; PackageTopMarking: ZXYTT*L226B; PowerWise: N; CompType: LDO IC; High-Reliability: Y; DatasheetVersion: Jan-2008; PackageVersion: revA, Oct-2003; PackageReference: SDA10A; PackageDescription: LLP, Plastic, Dual, 3 x 3 x 0.8mm Body, 10 Lead, 0.5mm Pitch, No Pullback; RoHS: Y; PinCount: 10; ComponentLink1Description: Manufacturer URL; ComponentLink1URL: http://www.national.com/; ComponentLink2Description: LP5996 Datasheet; ComponentLink2URL: http://www.national.com/ds/LP/LP5996.pdf; ComponentLink3Description: LP5996 Web Page; ComponentLink3URL: http://www.national.com/pf/LP/LP5996.html; ComponentLink4Description: SDA10A Package Page; ComponentLink4URL: http://www.national.com/packaging/folders/sda10a.html
footprint SDA10A (SON, 10-Leads, Body 3x3 mm, Pitch 0.5mm, NSC Recommended)
pins: 1 IN (power), 2 EN1 (in), 3 EN2 (in), 4 CBYP, 5 NC, 6 GND (power), 7 NC, 8 NC, 9 OUT2 (power), 10 OUT1 (power), 11 DAP (power)

## LP5996SD-2533/NOPB
designator U?
Dual Linear Regulator with 300mA and 150mA Outputs, 10-pin LLP, Pb-Free; PartNumber: LP5996SD-2533/NOPB; Manufacturer: National Semiconductor; PackageTopMarking: ZXYTT*L226B; PowerWise: N; CompType: LDO IC; High-Reliability: Y; DatasheetVersion: Jan-2008; PackageVersion: revA, Oct-2003; PackageReference: SDA10A; PackageDescription: LLP, Plastic, Dual, 3 x 3 x 0.8mm Body, 10 Lead, 0.5mm Pitch, No Pullback; RoHS: Y; PinCount: 10; ComponentLink1Description: Manufacturer URL; ComponentLink1URL: http://www.national.com/; ComponentLink2Description: LP5996 Datasheet; ComponentLink2URL: http://www.national.com/ds/LP/LP5996.pdf; ComponentLink3Description: LP5996 Web Page; ComponentLink3URL: http://www.national.com/pf/LP/LP5996.html; ComponentLink4Description: SDA10A Package Page; ComponentLink4URL: http://www.national.com/packaging/folders/sda10a.html
footprint SDA10A (SON, 10-Leads, Body 3x3 mm, Pitch 0.5mm, NSC Recommended)
pins: 1 IN (power), 2 EN1 (in), 3 EN2 (in), 4 CBYP, 5 NC, 6 GND (power), 7 NC, 8 NC, 9 OUT2 (power), 10 OUT1 (power), 11 DAP (power)

## LP5996SD-2828
designator U?
Dual Linear Regulator with 300mA and 150mA Outputs, 10-pin LLP; PartNumber: LP5996SD-2828; Manufacturer: National Semiconductor; PackageTopMarking: ZXYTT*L180B; PowerWise: N; CompType: LDO IC; High-Reliability: Y; DatasheetVersion: Jan-2008; PackageVersion: revA, Oct-2003; PackageReference: SDA10A; PackageDescription: LLP, Plastic, Dual, 3 x 3 x 0.8mm Body, 10 Lead, 0.5mm Pitch, No Pullback; RoHS: N; PinCount: 10; ComponentLink1Description: Manufacturer URL; ComponentLink1URL: http://www.national.com/; ComponentLink2Description: LP5996 Datasheet; ComponentLink2URL: http://www.national.com/ds/LP/LP5996.pdf; ComponentLink3Description: LP5996 Web Page; ComponentLink3URL: http://www.national.com/pf/LP/LP5996.html; ComponentLink4Description: SDA10A Package Page; ComponentLink4URL: http://www.national.com/packaging/folders/sda10a.html
footprint SDA10A (SON, 10-Leads, Body 3x3 mm, Pitch 0.5mm, NSC Recommended)
pins: 1 IN (power), 2 EN1 (in), 3 EN2 (in), 4 CBYP, 5 NC, 6 GND (power), 7 NC, 8 NC, 9 OUT2 (power), 10 OUT1 (power), 11 DAP (power)

## LP5996SD-2828/NOPB
designator U?
Dual Linear Regulator with 300mA and 150mA Outputs, 10-pin LLP, Pb-Free; PartNumber: LP5996SD-2828/NOPB; Manufacturer: National Semiconductor; PackageTopMarking: ZXYTT*L180B; PowerWise: N; CompType: LDO IC; High-Reliability: Y; DatasheetVersion: Jan-2008; PackageVersion: revA, Oct-2003; PackageReference: SDA10A; PackageDescription: LLP, Plastic, Dual, 3 x 3 x 0.8mm Body, 10 Lead, 0.5mm Pitch, No Pullback; RoHS: Y; PinCount: 10; ComponentLink1Description: Manufacturer URL; ComponentLink1URL: http://www.national.com/; ComponentLink2Description: LP5996 Datasheet; ComponentLink2URL: http://www.national.com/ds/LP/LP5996.pdf; ComponentLink3Description: LP5996 Web Page; ComponentLink3URL: http://www.national.com/pf/LP/LP5996.html; ComponentLink4Description: SDA10A Package Page; ComponentLink4URL: http://www.national.com/packaging/folders/sda10a.html
footprint SDA10A (SON, 10-Leads, Body 3x3 mm, Pitch 0.5mm, NSC Recommended)
pins: 1 IN (power), 2 EN1 (in), 3 EN2 (in), 4 CBYP, 5 NC, 6 GND (power), 7 NC, 8 NC, 9 OUT2 (power), 10 OUT1 (power), 11 DAP (power)

## LP5996SD-3030
designator U?
Dual Linear Regulator with 300mA and 150mA Outputs, 10-pin LLP; PartNumber: LP5996SD-3030; Manufacturer: National Semiconductor; PackageTopMarking: ZXYTT*L181B; PowerWise: N; CompType: LDO IC; High-Reliability: Y; DatasheetVersion: Jan-2008; PackageVersion: revA, Oct-2003; PackageReference: SDA10A; PackageDescription: LLP, Plastic, Dual, 3 x 3 x 0.8mm Body, 10 Lead, 0.5mm Pitch, No Pullback; RoHS: N; PinCount: 10; ComponentLink1Description: Manufacturer URL; ComponentLink1URL: http://www.national.com/; ComponentLink2Description: LP5996 Datasheet; ComponentLink2URL: http://www.national.com/ds/LP/LP5996.pdf; ComponentLink3Description: LP5996 Web Page; ComponentLink3URL: http://www.national.com/pf/LP/LP5996.html; ComponentLink4Description: SDA10A Package Page; ComponentLink4URL: http://www.national.com/packaging/folders/sda10a.html
footprint SDA10A (SON, 10-Leads, Body 3x3 mm, Pitch 0.5mm, NSC Recommended)
pins: 1 IN (power), 2 EN1 (in), 3 EN2 (in), 4 CBYP, 5 NC, 6 GND (power), 7 NC, 8 NC, 9 OUT2 (power), 10 OUT1 (power), 11 DAP (power)

## LP5996SD-3030/NOPB
designator U?
Dual Linear Regulator with 300mA and 150mA Outputs, 10-pin LLP, Pb-Free; PartNumber: LP5996SD-3030/NOPB; Manufacturer: National Semiconductor; PackageTopMarking: ZXYTT*L181B; PowerWise: N; CompType: LDO IC; High-Reliability: Y; DatasheetVersion: Jan-2008; PackageVersion: revA, Oct-2003; PackageReference: SDA10A; PackageDescription: LLP, Plastic, Dual, 3 x 3 x 0.8mm Body, 10 Lead, 0.5mm Pitch, No Pullback; RoHS: Y; PinCount: 10; ComponentLink1Description: Manufacturer URL; ComponentLink1URL: http://www.national.com/; ComponentLink2Description: LP5996 Datasheet; ComponentLink2URL: http://www.national.com/ds/LP/LP5996.pdf; ComponentLink3Description: LP5996 Web Page; ComponentLink3URL: http://www.national.com/pf/LP/LP5996.html; ComponentLink4Description: SDA10A Package Page; ComponentLink4URL: http://www.national.com/packaging/folders/sda10a.html
footprint SDA10A (SON, 10-Leads, Body 3x3 mm, Pitch 0.5mm, NSC Recommended)
pins: 1 IN (power), 2 EN1 (in), 3 EN2 (in), 4 CBYP, 5 NC, 6 GND (power), 7 NC, 8 NC, 9 OUT2 (power), 10 OUT1 (power), 11 DAP (power)

## LP5996SD-3033
designator U?
Dual Linear Regulator with 300mA and 150mA Outputs, 10-pin LLP; PartNumber: LP5996SD-3033; Manufacturer: National Semiconductor; PackageTopMarking: ZXYTT*L179B; PowerWise: N; CompType: LDO IC; High-Reliability: Y; DatasheetVersion: Jan-2008; PackageVersion: revA, Oct-2003; PackageReference: SDA10A; PackageDescription: LLP, Plastic, Dual, 3 x 3 x 0.8mm Body, 10 Lead, 0.5mm Pitch, No Pullback; RoHS: N; PinCount: 10; ComponentLink1Description: Manufacturer URL; ComponentLink1URL: http://www.national.com/; ComponentLink2Description: LP5996 Datasheet; ComponentLink2URL: http://www.national.com/ds/LP/LP5996.pdf; ComponentLink3Description: LP5996 Web Page; ComponentLink3URL: http://www.national.com/pf/LP/LP5996.html; ComponentLink4Description: SDA10A Package Page; ComponentLink4URL: http://www.national.com/packaging/folders/sda10a.html
footprint SDA10A (SON, 10-Leads, Body 3x3 mm, Pitch 0.5mm, NSC Recommended)
pins: 1 IN (power), 2 EN1 (in), 3 EN2 (in), 4 CBYP, 5 NC, 6 GND (power), 7 NC, 8 NC, 9 OUT2 (power), 10 OUT1 (power), 11 DAP (power)

## LP5996SD-3033/NOPB
designator U?
Dual Linear Regulator with 300mA and 150mA Outputs, 10-pin LLP, Pb-Free; PartNumber: LP5996SD-3033/NOPB; Manufacturer: National Semiconductor; PackageTopMarking: ZXYTT*L179B; PowerWise: N; CompType: LDO IC; High-Reliability: Y; DatasheetVersion: Jan-2008; PackageVersion: revA, Oct-2003; PackageReference: SDA10A; PackageDescription: LLP, Plastic, Dual, 3 x 3 x 0.8mm Body, 10 Lead, 0.5mm Pitch, No Pullback; RoHS: Y; PinCount: 10; ComponentLink1Description: Manufacturer URL; ComponentLink1URL: http://www.national.com/; ComponentLink2Description: LP5996 Datasheet; ComponentLink2URL: http://www.national.com/ds/LP/LP5996.pdf; ComponentLink3Description: LP5996 Web Page; ComponentLink3URL: http://www.national.com/pf/LP/LP5996.html; ComponentLink4Description: SDA10A Package Page; ComponentLink4URL: http://www.national.com/packaging/folders/sda10a.html
footprint SDA10A (SON, 10-Leads, Body 3x3 mm, Pitch 0.5mm, NSC Recommended)
pins: 1 IN (power), 2 EN1 (in), 3 EN2 (in), 4 CBYP, 5 NC, 6 GND (power), 7 NC, 8 NC, 9 OUT2 (power), 10 OUT1 (power), 11 DAP (power)

## LP5996SD-3308
designator U?
Dual Linear Regulator with 300mA and 150mA Outputs, 10-pin LLP; PartNumber: LP5996SD-3308; Manufacturer: National Semiconductor; PackageTopMarking: ZXYTT*L205B; PowerWise: N; CompType: LDO IC; High-Reliability: Y; DatasheetVersion: Jan-2008; PackageVersion: revA, Oct-2003; PackageReference: SDA10A; PackageDescription: LLP, Plastic, Dual, 3 x 3 x 0.8mm Body, 10 Lead, 0.5mm Pitch, No Pullback; RoHS: N; PinCount: 10; ComponentLink1Description: Manufacturer URL; ComponentLink1URL: http://www.national.com/; ComponentLink2Description: LP5996 Datasheet; ComponentLink2URL: http://www.national.com/ds/LP/LP5996.pdf; ComponentLink3Description: LP5996 Web Page; ComponentLink3URL: http://www.national.com/pf/LP/LP5996.html; ComponentLink4Description: SDA10A Package Page; ComponentLink4URL: http://www.national.com/packaging/folders/sda10a.html
footprint SDA10A (SON, 10-Leads, Body 3x3 mm, Pitch 0.5mm, NSC Recommended)
pins: 1 IN (power), 2 EN1 (in), 3 EN2 (in), 4 CBYP, 5 NC, 6 GND (power), 7 NC, 8 NC, 9 OUT2 (power), 10 OUT1 (power), 11 DAP (power)

## LP5996SD-3308/NOPB
designator U?
Dual Linear Regulator with 300mA and 150mA Outputs, 10-pin LLP, Pb-Free; PartNumber: LP5996SD-3308/NOPB; Manufacturer: National Semiconductor; PackageTopMarking: ZXYTT*L205B; PowerWise: N; CompType: LDO IC; High-Reliability: Y; DatasheetVersion: Jan-2008; PackageVersion: revA, Oct-2003; PackageReference: SDA10A; PackageDescription: LLP, Plastic, Dual, 3 x 3 x 0.8mm Body, 10 Lead, 0.5mm Pitch, No Pullback; RoHS: Y; PinCount: 10; ComponentLink1Description: Manufacturer URL; ComponentLink1URL: http://www.national.com/; ComponentLink2Description: LP5996 Datasheet; ComponentLink2URL: http://www.national.com/ds/LP/LP5996.pdf; ComponentLink3Description: LP5996 Web Page; ComponentLink3URL: http://www.national.com/pf/LP/LP5996.html; ComponentLink4Description: SDA10A Package Page; ComponentLink4URL: http://www.national.com/packaging/folders/sda10a.html
footprint SDA10A (SON, 10-Leads, Body 3x3 mm, Pitch 0.5mm, NSC Recommended)
pins: 1 IN (power), 2 EN1 (in), 3 EN2 (in), 4 CBYP, 5 NC, 6 GND (power), 7 NC, 8 NC, 9 OUT2 (power), 10 OUT1 (power), 11 DAP (power)

## LP5996SD-3333
designator U?
Dual Linear Regulator with 300mA and 150mA Outputs, 10-pin LLP; PartNumber: LP5996SD-3333; Manufacturer: National Semiconductor; PackageTopMarking: ZXYTT*L182B; PowerWise: N; CompType: LDO IC; High-Reliability: Y; DatasheetVersion: Jan-2008; PackageVersion: revA, Oct-2003; PackageReference: SDA10A; PackageDescription: LLP, Plastic, Dual, 3 x 3 x 0.8mm Body, 10 Lead, 0.5mm Pitch, No Pullback; RoHS: N; PinCount: 10; ComponentLink1Description: Manufacturer URL; ComponentLink1URL: http://www.national.com/; ComponentLink2Description: LP5996 Datasheet; ComponentLink2URL: http://www.national.com/ds/LP/LP5996.pdf; ComponentLink3Description: LP5996 Web Page; ComponentLink3URL: http://www.national.com/pf/LP/LP5996.html; ComponentLink4Description: SDA10A Package Page; ComponentLink4URL: http://www.national.com/packaging/folders/sda10a.html
footprint SDA10A (SON, 10-Leads, Body 3x3 mm, Pitch 0.5mm, NSC Recommended)
pins: 1 IN (power), 2 EN1 (in), 3 EN2 (in), 4 CBYP, 5 NC, 6 GND (power), 7 NC, 8 NC, 9 OUT2 (power), 10 OUT1 (power), 11 DAP (power)

## LP5996SD-3333/NOPB
designator U?
Dual Linear Regulator with 300mA and 150mA Outputs, 10-pin LLP, Pb-Free; PartNumber: LP5996SD-3333/NOPB; Manufacturer: National Semiconductor; PackageTopMarking: ZXYTT*L182B; PowerWise: N; CompType: LDO IC; High-Reliability: Y; DatasheetVersion: Jan-2008; PackageVersion: revA, Oct-2003; PackageReference: SDA10A; PackageDescription: LLP, Plastic, Dual, 3 x 3 x 0.8mm Body, 10 Lead, 0.5mm Pitch, No Pullback; RoHS: Y; PinCount: 10; ComponentLink1Description: Manufacturer URL; ComponentLink1URL: http://www.national.com/; ComponentLink2Description: LP5996 Datasheet; ComponentLink2URL: http://www.national.com/ds/LP/LP5996.pdf; ComponentLink3Description: LP5996 Web Page; ComponentLink3URL: http://www.national.com/pf/LP/LP5996.html; ComponentLink4Description: SDA10A Package Page; ComponentLink4URL: http://www.national.com/packaging/folders/sda10a.html
footprint SDA10A (SON, 10-Leads, Body 3x3 mm, Pitch 0.5mm, NSC Recommended)
pins: 1 IN (power), 2 EN1 (in), 3 EN2 (in), 4 CBYP, 5 NC, 6 GND (power), 7 NC, 8 NC, 9 OUT2 (power), 10 OUT1 (power), 11 DAP (power)

## LP5996SDX-0833
designator U?
Dual Linear Regulator with 300mA and 150mA Outputs, 10-pin LLP; PartNumber: LP5996SDX-0833; Manufacturer: National Semiconductor; PackageTopMarking: ZXYTT*L176B; PowerWise: N; CompType: LDO IC; High-Reliability: Y; DatasheetVersion: Jan-2008; PackageVersion: revA, Oct-2003; PackageReference: SDA10A; PackageDescription: LLP, Plastic, Dual, 3 x 3 x 0.8mm Body, 10 Lead, 0.5mm Pitch, No Pullback; RoHS: N; PinCount: 10; ComponentLink1Description: Manufacturer URL; ComponentLink1URL: http://www.national.com/; ComponentLink2Description: LP5996 Datasheet; ComponentLink2URL: http://www.national.com/ds/LP/LP5996.pdf; ComponentLink3Description: LP5996 Web Page; ComponentLink3URL: http://www.national.com/pf/LP/LP5996.html; ComponentLink4Description: SDA10A Package Page; ComponentLink4URL: http://www.national.com/packaging/folders/sda10a.html
footprint SDA10A (SON, 10-Leads, Body 3x3 mm, Pitch 0.5mm, NSC Recommended)
pins: 1 IN (power), 2 EN1 (in), 3 EN2 (in), 4 CBYP, 5 NC, 6 GND (power), 7 NC, 8 NC, 9 OUT2 (power), 10 OUT1 (power), 11 DAP (power)

## LP5996SDX-0833/NOPB
designator U?
Dual Linear Regulator with 300mA and 150mA Outputs, 10-pin LLP, Pb-Free; PartNumber: LP5996SDX-0833/NOPB; Manufacturer: National Semiconductor; PackageTopMarking: ZXYTT*L176B; PowerWise: N; CompType: LDO IC; High-Reliability: Y; DatasheetVersion: Jan-2008; PackageVersion: revA, Oct-2003; PackageReference: SDA10A; PackageDescription: LLP, Plastic, Dual, 3 x 3 x 0.8mm Body, 10 Lead, 0.5mm Pitch, No Pullback; RoHS: Y; PinCount: 10; ComponentLink1Description: Manufacturer URL; ComponentLink1URL: http://www.national.com/; ComponentLink2Description: LP5996 Datasheet; ComponentLink2URL: http://www.national.com/ds/LP/LP5996.pdf; ComponentLink3Description: LP5996 Web Page; ComponentLink3URL: http://www.national.com/pf/LP/LP5996.html; ComponentLink4Description: SDA10A Package Page; ComponentLink4URL: http://www.national.com/packaging/folders/sda10a.html
footprint SDA10A (SON, 10-Leads, Body 3x3 mm, Pitch 0.5mm, NSC Recommended)
pins: 1 IN (power), 2 EN1 (in), 3 EN2 (in), 4 CBYP, 5 NC, 6 GND (power), 7 NC, 8 NC, 9 OUT2 (power), 10 OUT1 (power), 11 DAP (power)

## LP5996SDX-1018/NOPB
designator U?
Dual Linear Regulator with 300mA and 150mA Outputs, 10-pin LLP, Pb-Free; PartNumber: LP5996SDX-1018/NOPB; Manufacturer: National Semiconductor; PackageTopMarking: ZXYTT*L224B; PowerWise: N; CompType: LDO IC; High-Reliability: Y; DatasheetVersion: Jan-2008; PackageVersion: revA, Oct-2003; PackageReference: SDA10A; PackageDescription: LLP, Plastic, Dual, 3 x 3 x 0.8mm Body, 10 Lead, 0.5mm Pitch, No Pullback; RoHS: Y; PinCount: 10; ComponentLink1Description: Manufacturer URL; ComponentLink1URL: http://www.national.com/; ComponentLink2Description: LP5996 Datasheet; ComponentLink2URL: http://www.national.com/ds/LP/LP5996.pdf; ComponentLink3Description: LP5996 Web Page; ComponentLink3URL: http://www.national.com/pf/LP/LP5996.html; ComponentLink4Description: SDA10A Package Page; ComponentLink4URL: http://www.national.com/packaging/folders/sda10a.html
footprint SDA10A (SON, 10-Leads, Body 3x3 mm, Pitch 0.5mm, NSC Recommended)
pins: 1 IN (power), 2 EN1 (in), 3 EN2 (in), 4 CBYP, 5 NC, 6 GND (power), 7 NC, 8 NC, 9 OUT2 (power), 10 OUT1 (power), 11 DAP (power)

## LP5996SDX-1525
designator U?
Dual Linear Regulator with 300mA and 150mA Outputs, 10-pin LLP; PartNumber: LP5996SDX-1525; Manufacturer: National Semiconductor; PackageTopMarking: ZXYTT*L177B; PowerWise: N; CompType: LDO IC; High-Reliability: Y; DatasheetVersion: Jan-2008; PackageVersion: revA, Oct-2003; PackageReference: SDA10A; PackageDescription: LLP, Plastic, Dual, 3 x 3 x 0.8mm Body, 10 Lead, 0.5mm Pitch, No Pullback; RoHS: N; PinCount: 10; ComponentLink1Description: Manufacturer URL; ComponentLink1URL: http://www.national.com/; ComponentLink2Description: LP5996 Datasheet; ComponentLink2URL: http://www.national.com/ds/LP/LP5996.pdf; ComponentLink3Description: LP5996 Web Page; ComponentLink3URL: http://www.national.com/pf/LP/LP5996.html; ComponentLink4Description: SDA10A Package Page; ComponentLink4URL: http://www.national.com/packaging/folders/sda10a.html
footprint SDA10A (SON, 10-Leads, Body 3x3 mm, Pitch 0.5mm, NSC Recommended)
pins: 1 IN (power), 2 EN1 (in), 3 EN2 (in), 4 CBYP, 5 NC, 6 GND (power), 7 NC, 8 NC, 9 OUT2 (power), 10 OUT1 (power), 11 DAP (power)

## LP5996SDX-1525/NOPB
designator U?
Dual Linear Regulator with 300mA and 150mA Outputs, 10-pin LLP, Pb-Free; PartNumber: LP5996SDX-1525/NOPB; Manufacturer: National Semiconductor; PackageTopMarking: ZXYTT*L177B; PowerWise: N; CompType: LDO IC; High-Reliability: Y; DatasheetVersion: Jan-2008; PackageVersion: revA, Oct-2003; PackageReference: SDA10A; PackageDescription: LLP, Plastic, Dual, 3 x 3 x 0.8mm Body, 10 Lead, 0.5mm Pitch, No Pullback; RoHS: Y; PinCount: 10; ComponentLink1Description: Manufacturer URL; ComponentLink1URL: http://www.national.com/; ComponentLink2Description: LP5996 Datasheet; ComponentLink2URL: http://www.national.com/ds/LP/LP5996.pdf; ComponentLink3Description: LP5996 Web Page; ComponentLink3URL: http://www.national.com/pf/LP/LP5996.html; ComponentLink4Description: SDA10A Package Page; ComponentLink4URL: http://www.national.com/packaging/folders/sda10a.html
footprint SDA10A (SON, 10-Leads, Body 3x3 mm, Pitch 0.5mm, NSC Recommended)
pins: 1 IN (power), 2 EN1 (in), 3 EN2 (in), 4 CBYP, 5 NC, 6 GND (power), 7 NC, 8 NC, 9 OUT2 (power), 10 OUT1 (power), 11 DAP (power)